# EAGLE library part KERI (library Microphone)
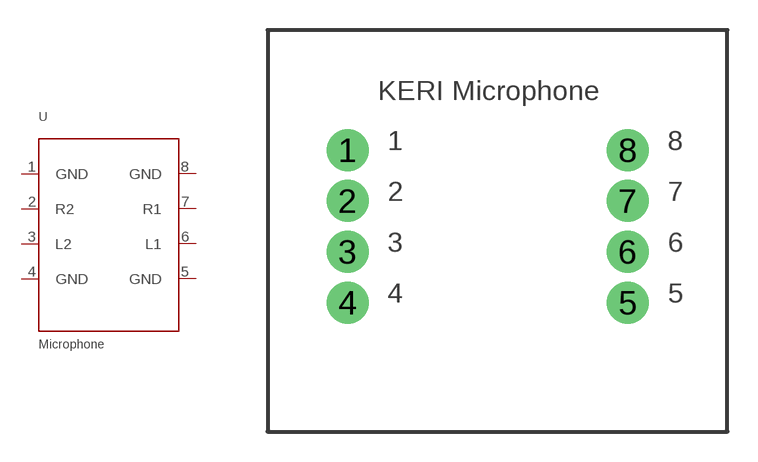
[diagram p1: symbol with the pads of KERI_8PIN; footprint KERI_8PIN]

Designator prefix U

## KERI  [KERI_8PIN]
1  GND  pwr
2  R2
3  L2
4  GND  pwr
5  GND  pwr
6  L1
7  R1
8  GND  pwr

## Footprint KERI_8PIN (pad centres in mm)
drill 1.4: 1 4,-6; 2 4,-8.54; 3 4,-11.08; 4 4,-13.62; 5 18,-13.62; 6 18,-11.08; 7 18,-8.54; 8 18,-6